# Altium footprint library RX.PcbLib: 18 footprints (part 1 of 2)
Each footprint in its own frame and in the unit in brackets; x right, y up, seen from the top. Pads: shape width x height; smd on the part's side, far side on the other; paste and mask are expansions set on the pad; w line width, h text height; cw(c..) or ccw(c..) is an arc to the next point about the centre after c.
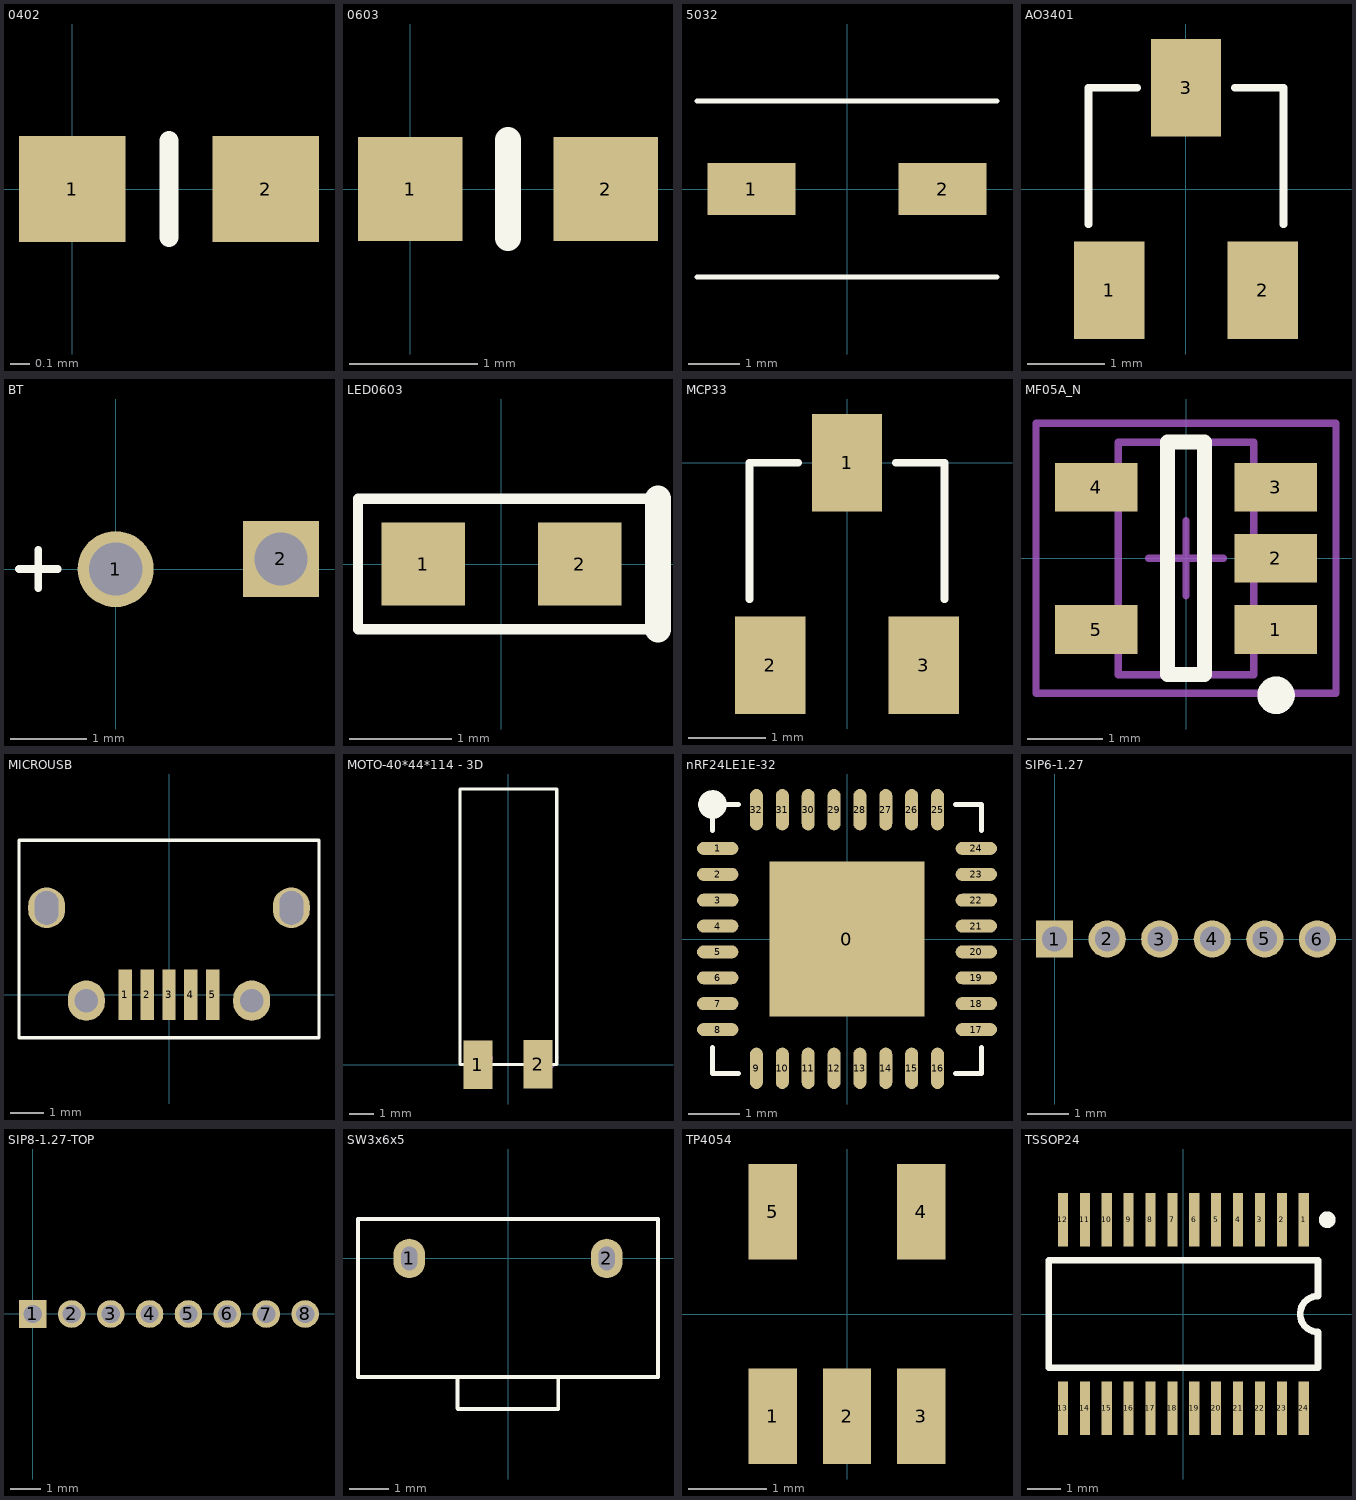
[diagram p0: the footprints below, top view; thin cyan lines are the x and y axes]

## 0402 [mil]
pads (2):
  rect 22x22 smd: 1(0,0) 2(40,0)
Top Overlay:
  lines w3.94: 20,-10 20,10

## 0603 [mil]
pads (2):
  rect 32x32 smd: 1(0,0) 2(60,0)
Top Overlay:
  lines w8: 30,-15 30,15

## 5032 [mm]
pads (2):
  rect 1.7x1 smd: 1(-1.85,0) 2(1.85,0)
Top Overlay:
  lines w0.1: -2.9,-1.7 2.9,-1.7 ; -2.9,1.7 2.9,1.7

## AO3401 [mm]
pads (3):
  rect 0.915x1.27 smd: 1(-1,-1.318) 2(1,-1.318) 3(0,1.318)
Top Overlay:
  lines w0.1: -1.27,-0.46 -1.27,1.318 -0.635,1.318 ; 0.635,1.318 1.27,1.318 1.27,-0.46

## BT [mm]
pads (2):
  round 1 hole 0.7: 1(0,0)
  rect 1x1 hole 0.7: 2(2.172,0.133)
Top Overlay:
  lines w0.1: -1.27,0 -0.762,0 ; -1.016,-0.254 -1.016,0.254

## LED0603 [mil]
pads (2):
  rect 32x32 smd: 1(-30,0) 2(30,0)
Top Overlay:
  lines w3.94: 60,-25 -50,-25 -55,-25 -55,25 60,25
  lines w10: 60,-25 60,25

## MCP33 [mm]
pads (3):
  rect 0.915x1.27 smd: 1(0,0) 2(-1,-2.635) 3(1,-2.635)
Top Overlay:
  lines w0.1: -1.27,-1.778 -1.27,0 -0.635,0 ; 0.635,0 1.27,0 1.27,-1.778

## MF05A_N [mm] "SOT23, 5-Leads, Body 2.9x1.6mm, Pitch 0.95mm, Lead Span 2.8mm, IPC Medium Density"
height 1.22
pads (5):
  rect 1.1x0.65 smd: 1(1.2,-0.95) 2(1.2,0) 3(1.2,0.95) 4(-1.2,0.95) 5(-1.2,-0.95)
Top Overlay:
  circle w0.25: c1.2,-1.825 r0.125
  lines w0.2: -0.25,-1.55 -0.25,1.55 0.25,1.55 0.25,-1.55 -0.25,-1.55
Mechanical 13:
  lines w0.1: -0.9,-1.55 0.9,-1.55 0.9,1.55 -0.9,1.55 -0.9,-1.55
Mechanical 15:
  lines w0.1: -0.5,0 0.5,0 ; 0,-0.5 0,0.5 ; -2,-1.8 2,-1.8 2,1.8 -2,1.8 -2,-1.8
3D body: height 1.22, standoff 0, extent -0.9,-1.55 0.9,1.55

## MICROUSB [mm]
pads (9):
  rect 0.4x1.5 smd: 1(-1.3,0) 2(-0.65,0) 3(0,0) 4(0.65,0) 5(1.3,0)
  oval 1.1x1.2 hole 0.7 slot 1 at 90 deg: ""(-3.625,2.575) ""(3.625,2.575)
  oval 1.1x1.2 hole 0.7: ""(-2.45,-0.175) ""(2.45,-0.175)
Top Overlay:
  lines w0.1: -4.445,-1.27 4.445,-1.27 4.445,4.572 -4.445,4.572 -4.445,-1.27

## MOTO-40*44*114 - 3D [mm]
pads (2):
  rect 1.2x2 smd: 1(-1.263,-0.009) 2(1.228,0.012)
Top Overlay:
  lines w0.127: -2,0 -2,11.4 2,11.4 2,0 -2,0
Mechanical 1:
  lines w0.051: -1.644,0.316 ccw(c-1.144,0.316) -0.644,0.316 ; 1.056,0.316 ccw(c1.556,0.316) 2.056,0.316
3D body: height 3.3, standoff 0.1, extent -1.606,7.747 1.594,10.547
3D body: height 2, standoff 1.4, extent -0.314,7.493 0.286,7.743
3D body: height 3.4, standoff 0.03, extent -1.602,0 1.6,6.7
3D body: height 3, standoff 0.03, extent 1.6,-0.002 1.99,6.7
3D body: height 3, standoff 0.03, extent -2,0 -1.602,6.7
3D body: height 3.4, standoff 2.6, extent 1.194,-0.002 1.99,6.698
3D body: height 3.4, standoff 2.6, extent -2,0 -1.203,6.7
3D body: height 2.9, standoff 0.5, extent -1.22,6.69 1.18,7.49

## nRF24LE1E-32 [mm]
pads (33):
  rect 3x3 smd: 0(0,0)
  oval 0.8x0.25 smd: 1(-2.5,1.75) 2(-2.5,1.25) 3(-2.5,0.75) 4(-2.5,0.25) 5(-2.5,-0.25) 6(-2.5,-0.75) 7(-2.5,-1.25) 8(-2.5,-1.75) 17(2.5,-1.75) 18(2.5,-1.25) 19(2.5,-0.75) 20(2.5,-0.25) 21(2.5,0.25) 22(2.5,0.75) 23(2.5,1.25) 24(2.5,1.75)
  oval 0.25x0.8 smd: 9(-1.75,-2.5) 10(-1.25,-2.5) 11(-0.75,-2.5) 12(-0.25,-2.5) 13(0.25,-2.5) 14(0.75,-2.5) 15(1.25,-2.5) 16(1.75,-2.5) 25(1.75,2.5) 26(1.25,2.5) 27(0.75,2.5) 28(0.25,2.5) 29(-0.25,2.5) 30(-0.75,2.5) 31(-1.25,2.5) 32(-1.75,2.5)
Top Overlay:
  circle w0.254: c-2.6,2.6 r0.15
  lines w0.1: -2.6,-2.1 -2.6,-2.6 -2.1,-2.6 ; -2.6,2.1 -2.6,2.6 -2.1,2.6 ; 2.1,-2.6 2.6,-2.6 2.6,-2.1 ; 2.1,2.6 2.6,2.6 2.6,2.1

## SIP6-1.27 [mm]
pads (6):
  rect 0.9x0.9 hole 0.6: 1(0,0)
  round 0.9 hole 0.6: 2(1.27,0) 3(2.54,0) 4(3.81,0) 5(5.08,0) 6(6.35,0)

## SIP8-1.27-TOP [mm]
pads (8):
  rect 0.9x0.9 hole 0.6: 1(0,0)
  round 0.9 hole 0.6: 2(1.27,0) 3(2.54,0) 4(3.81,0) 5(5.08,0) 6(6.35,0) 7(7.62,0) 8(8.89,0)

## SW3x6x5 [mm]
pads (2):
  oval 0.8x1 hole 0.4 slot 0.6 at 90 deg: 1(-2.5,0) 2(2.5,0)
Top Overlay:
  lines w0.1: -1.283,-2.999 -1.283,-3.794 -1.263,-3.814 1.273,-3.814 ; 1.273,-2.999 1.273,-3.814 ; 1.273,-3.814 1.273,-3.814 ; -3.8,-3 3.8,-3 3.8,1 -3.8,1 -3.8,-3

## TP4054 [mm]
pads (5):
  rect 0.62x1.22 smd: 1(-0.95,-1.31) 2(0,-1.31) 3(0.95,-1.31) 4(0.95,1.31) 5(-0.95,1.31)

## TSSOP24 [mm] "Shrink Small Outline; 24 Leads; Body Width 4.4 mm; Pitch 0.65 mm"
height 1.1
pads (24):
  rect 0.3x1.6 smd: 1(3.575,2.8) 2(2.925,2.8) 3(2.275,2.8) 4(1.625,2.8) 5(0.975,2.8) 6(0.325,2.8) 7(-0.325,2.8) 8(-0.975,2.8) 9(-1.625,2.8) 10(-2.275,2.8) 11(-2.925,2.8) 12(-3.575,2.8) 13(-3.575,-2.8) 14(-2.925,-2.8) 15(-2.275,-2.8) 16(-1.625,-2.8) 17(-0.975,-2.8) 18(-0.325,-2.8) 19(0.325,-2.8) 20(0.975,-2.8) 21(1.625,-2.8) 22(2.275,-2.8) 23(2.925,-2.8) 24(3.575,-2.8)
Top Overlay:
  circle w0.25: c4.275,2.8 r0.125
  lines w0.2: -4,-1.6 4,-1.6 4,-0.533 cw(c4,0) 4,0.533 4,1.6 -4,1.6 -4,-1.6